# Altium footprint library PcbLib1.PcbLib: 8 footprints
Each footprint in its own frame and in the unit in brackets; x right, y up, seen from the top. Pads: shape width x height; smd on the part's side, far side on the other; paste and mask are expansions set on the pad; w line width, h text height; cw(c..) or ccw(c..) is an arc to the next point about the centre after c.
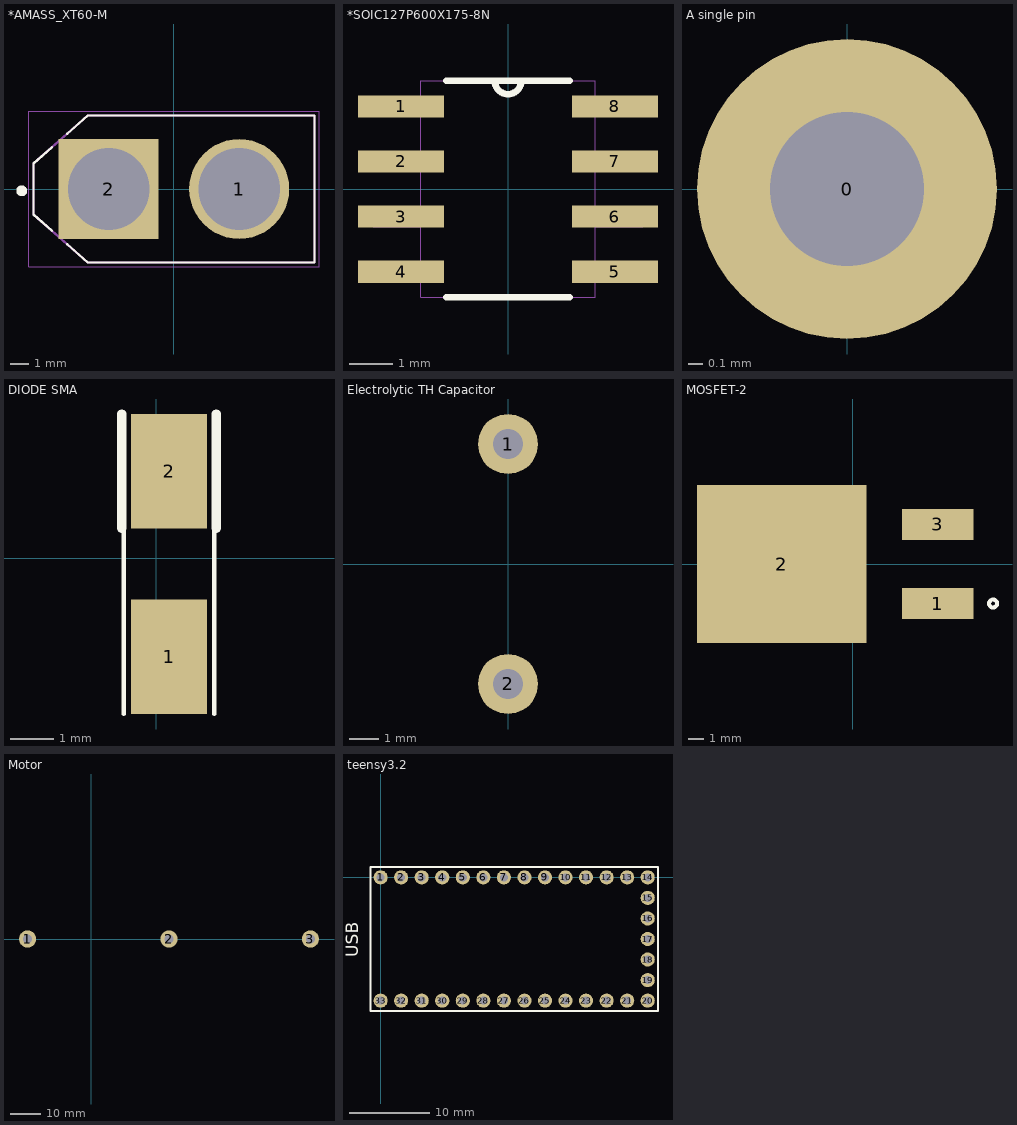
[diagram p0: the footprints below, top view; thin cyan lines are the x and y axes]

## *AMASS_XT60-M [mm]
pads (2):
  round 5.516 hole 4.5: 1(3.6,0)
  rect 5.516x5.516 hole 4.5: 2(-3.6,0)
Top Overlay:
  circle w0.3: c-8.4,-0.1 r0.15
  lines w0.127: -6.73,-2.3 -7.75,-1.4 -7.75,1.4 -6.73,2.3 ; -5.88,-3.05 -4.75,-4.05 7.75,-4.05 7.75,4.05 -4.75,4.05 -5.88,3.05
Mechanical 4:
  lines w0.127: -7.75,-1.4 -7.75,1.4 ; -7.75,-1.4 -4.75,-4.05 ; -7.75,-1.4 -7.75,1.4 ; -7.75,-1.4 -4.75,-4.05 ; -7.75,1.4 -4.75,4.05 ; -7.75,1.4 -4.75,4.05 ; -4.75,-4.05 7.75,-4.05 ; -4.75,-4.05 7.75,-4.05 ; -4.75,4.05 7.75,4.05 ; -4.75,4.05 7.75,4.05 ; 7.75,-4.05 7.75,4.05 ; 7.75,-4.05 7.75,4.05
Mechanical 16:
  lines w0.05: -8,-4.3 -8,4.3 8,4.3 8,-4.3 -8,-4.3

## *SOIC127P600X175-8N [mil]
pads (8):
  rect 78x20 smd: 1(-97,75) 2(-97,25) 3(-97,-25) 4(-97,-75) 5(97,-75) 6(97,-25) 7(97,25) 8(97,75)
Top Overlay:
  lines w6: -56,-98 56,-98 ; -56,98 -12,98 ; 56,98 12,98 ; -12,98 ccw(c0,98) 12,98 ; -12,98 12,98
Mechanical 4:
  lines w0: -122,-84 -79,-84 ; -122,-84 -122,-66 ; -122,-84 -79,-84 ; -122,-84 -122,-66 ; -122,-66 -79,-66 ; -122,-66 -79,-66 ; -122,-34 -79,-34 ; -122,-34 -122,-16 ; -122,-34 -79,-34 ; -122,-34 -122,-16 ; -122,-16 -79,-16 ; -122,-16 -79,-16 ; -122,16 -79,16 ; -122,16 -122,34 ; -122,16 -79,16 ; -122,16 -122,34 ; -122,34 -79,34 ; -122,34 -79,34 ; -122,66 -79,66 ; -122,66 -122,84 ; -122,66 -79,66 ; -122,66 -122,84 ; -122,84 -79,84 ; -122,84 -79,84 ; -79,-98 -79,98 ; -79,-98 79,-98 ; -79,-98 -79,98 ; -79,-98 79,-98 ; -79,-84 -79,-66 ; -79,-84 -79,-66 ; -79,-34 -79,-16 ; -79,-34 -79,-16 ; -79,16 -79,34 ; -79,16 -79,34 ; -79,66 -79,84 ; -79,66 -79,84 ; -79,98 -12,98 ; -79,98 -12,98 ; -12,98 ccw(c0,98) 12,98 ; -12,98 ccw(c0,98) 12,98 ; -12,98 12,98 ; -12,98 12,98 ; 12,98 79,98 ; 12,98 79,98 ; 79,-98 79,98 ; 79,-98 79,98 ; 79,-84 122,-84 ; 79,-84 79,-66 ; 79,-84 122,-84 ; 79,-84 79,-66 ; 79,-66 122,-66 ; 79,-66 122,-66 ; 79,-34 122,-34 ; 79,-34 79,-16 ; 79,-34 122,-34 ; 79,-34 79,-16 ; 79,-16 122,-16 ; 79,-16 122,-16 ; 79,16 122,16 ; 79,16 79,34 ; 79,16 122,16 ; 79,16 79,34 ; 79,34 122,34 ; 79,34 122,34 ; 79,66 122,66 ; 79,66 79,84 ; 79,66 122,66 ; 79,66 79,84 ; 79,84 122,84 ; 79,84 122,84 ; 122,-84 122,-66 ; 122,-84 122,-66 ; 122,-34 122,-16 ; 122,-34 122,-16 ; 122,16 122,34 ; 122,16 122,34 ; 122,66 122,84 ; 122,66 122,84

## A single pin [mil]
pads (1):
  round 80 hole 40.94: 0(0,0)

## DIODE SMA [mm]
pads (2):
  rect 1.75x2.65 smd: 1(0.293,-2.279) 2(0.293,2.021)
Top Overlay:
  lines w0.1: -0.757,-3.604 -0.757,0.696 ; 1.343,-3.604 1.343,0.696
  lines w0.22: -0.807,0.696 -0.807,3.346 ; 1.393,0.696 1.393,3.346

## Electrolytic TH Capacitor [mil]
pads (2):
  round 80 hole 40: 1(0,160) 2(0,-160)

## MOSFET-2 [mil]
pads (3):
  rect 180x78.74 smd: 1(215,-100) 3(215,100)
  rect 428.35x400 smd: 2(-180,0)
Top Overlay:
  circle w10: c355,-100 r10

## Motor [mil]
pads (3):
  round 225 hole 120: 1(-835,5) 2(1015,5) 3(2865,5)

## teensy3.2 [mm]
pads (33):
  round 1.75 hole 1: 1(0,0) 2(2.54,0) 3(5.08,0) 4(7.62,0) 5(10.16,0) 6(12.7,0) 7(15.24,0) 8(17.78,0) 9(20.32,0) 10(22.86,0) 11(25.4,0) 12(27.94,0) 13(30.48,0) 14(33.02,0) 15(33.02,-2.54) 16(33.02,-5.08) 17(33.02,-7.62) 18(33.02,-10.16) 19(33.02,-12.7) 20(33.02,-15.24) 21(30.48,-15.24) 22(27.94,-15.24) 23(25.4,-15.24) 24(22.86,-15.24) 25(20.32,-15.24) 26(17.78,-15.24) 27(15.24,-15.24) 28(12.7,-15.24) 29(10.16,-15.24) 30(7.62,-15.24) 31(5.08,-15.24) 32(2.54,-15.24) 33(0,-15.24)
Top Overlay:
  lines w0.254: -1.27,-16.51 -1.27,1.27 0,1.27 34.29,1.27 34.29,-16.51 -1.27,-16.51
  text "USB" at -2.794,-9.906 h1.52